# Altium footprint library NGELPAC_1p7.PcbLib: 1 footprints
Each footprint in its own frame and in the unit in brackets; x right, y up, seen from the top. Pads: shape width x height; smd on the part's side, far side on the other; paste and mask are expansions set on the pad; w line width, h text height; cw(c..) or ccw(c..) is an arc to the next point about the centre after c.
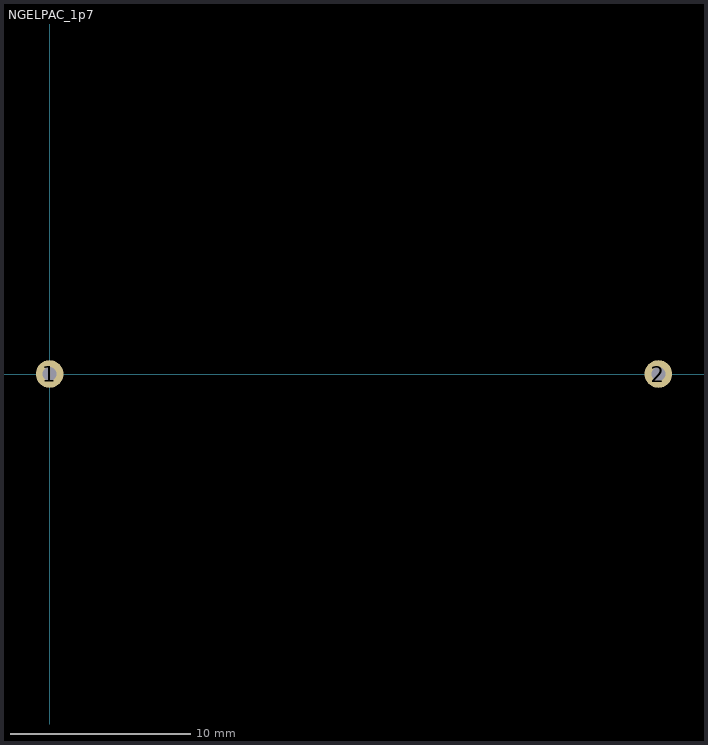
[diagram p0: the footprint, top view; thin cyan lines are the x and y axes]

## NGELPAC_1p7 [mil]
pads (2):
  round 60 hole 30: 1(0,0) 2(1325,0)
Bottom Overlay:
  lines w8: 37,0 1287,0
3D body: height 342.5, standoff -109, extent 232.5,-121.45 1157.5,121.46